# Altium footprint library RFM70.PcbLib: 1 footprints
Each footprint in its own frame and in the unit in brackets; x right, y up, seen from the top. Pads: shape width x height; smd on the part's side, far side on the other; paste and mask are expansions set on the pad; w line width, h text height; cw(c..) or ccw(c..) is an arc to the next point about the centre after c.
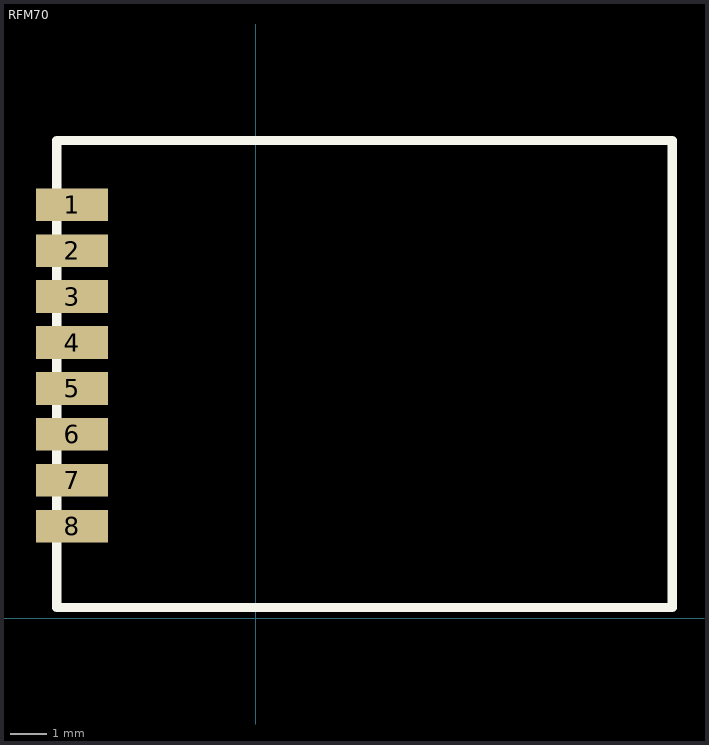
[diagram p0: the footprint, top view; thin cyan lines are the x and y axes]

## RFM70 [mm]
pads (8):
  rect 2x0.9 smd: 1(-5.08,11.43) 2(-5.08,10.16) 3(-5.08,8.89) 4(-5.08,7.62) 5(-5.08,6.35) 6(-5.08,5.08) 7(-5.08,3.81) 8(-5.08,2.54)
Top Overlay:
  lines w0.254: -5.5,0.3 11.5,0.3 11.5,13.2 -5.5,13.2 -5.5,0.3